# EAGLE library part GH1.25-7P (library JST-GH1.25)
JST GH 1.25mm PITCH SMD HEADER
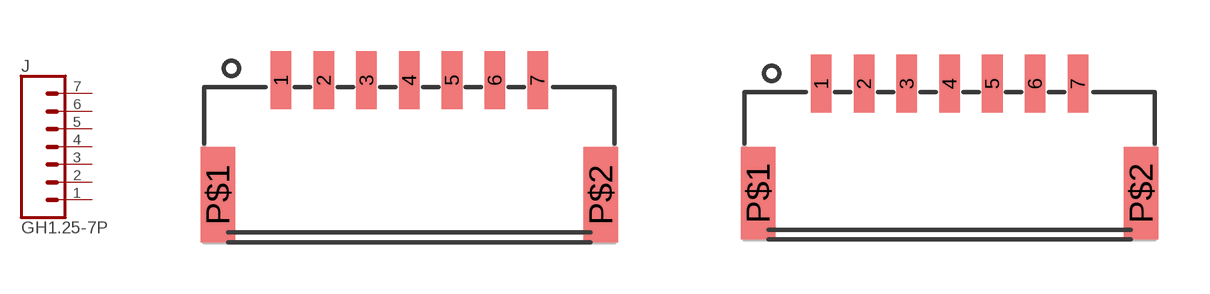
[diagram p1: symbol with the pads of BM07B-GHS-TBT; footprints BM07B-GHS-TBT, SM07B-GHS-TB]

Designator prefix J

## GH1.25-7P-BM07B-GHS-TBT  [BM07B-GHS-TBT]
1  1  pas
2  2  pas
3  3  pas
4  4  pas
5  5  pas
6  6  pas
7  7  pas

## GH1.25-7P-SM07B-GHS-TB  [SM07B-GHS-TB]
Pads as for BM07B-GHS-TBT

## Footprint BM07B-GHS-TBT (pad centres in mm)
TOP ENTRY JST GH 1.25mm SMD HEADER
smd 0.6 x 1.7: 1 -3.75,4.75; 2 -2.5,4.75; 3 -1.25,4.75; 4 0,4.75; 5 1.25,4.75; 6 2.5,4.75; 7 3.75,4.75
smd 1 x 2.8: P$1 -5.6,1.4; P$2 5.6,1.4

## Footprint SM07B-GHS-TB (pad centres in mm)
SIDE ENTRY JST GH 1.25mm SMD HEADER
smd 0.6 x 1.7: 1 -3.75,4.55; 2 -2.5,4.55; 3 -1.25,4.55; 4 0,4.55; 5 1.25,4.55; 6 2.5,4.55; 7 3.75,4.55
smd 1 x 2.7: P$1 -5.6,1.35; P$2 5.6,1.35